# Altium footprint library footprints.PcbLib: 32 footprints (part 1 of 2)
Each footprint in its own frame and in the unit in brackets; x right, y up, seen from the top. Pads: shape width x height; smd on the part's side, far side on the other; paste and mask are expansions set on the pad; w line width, h text height; cw(c..) or ccw(c..) is an arc to the next point about the centre after c.
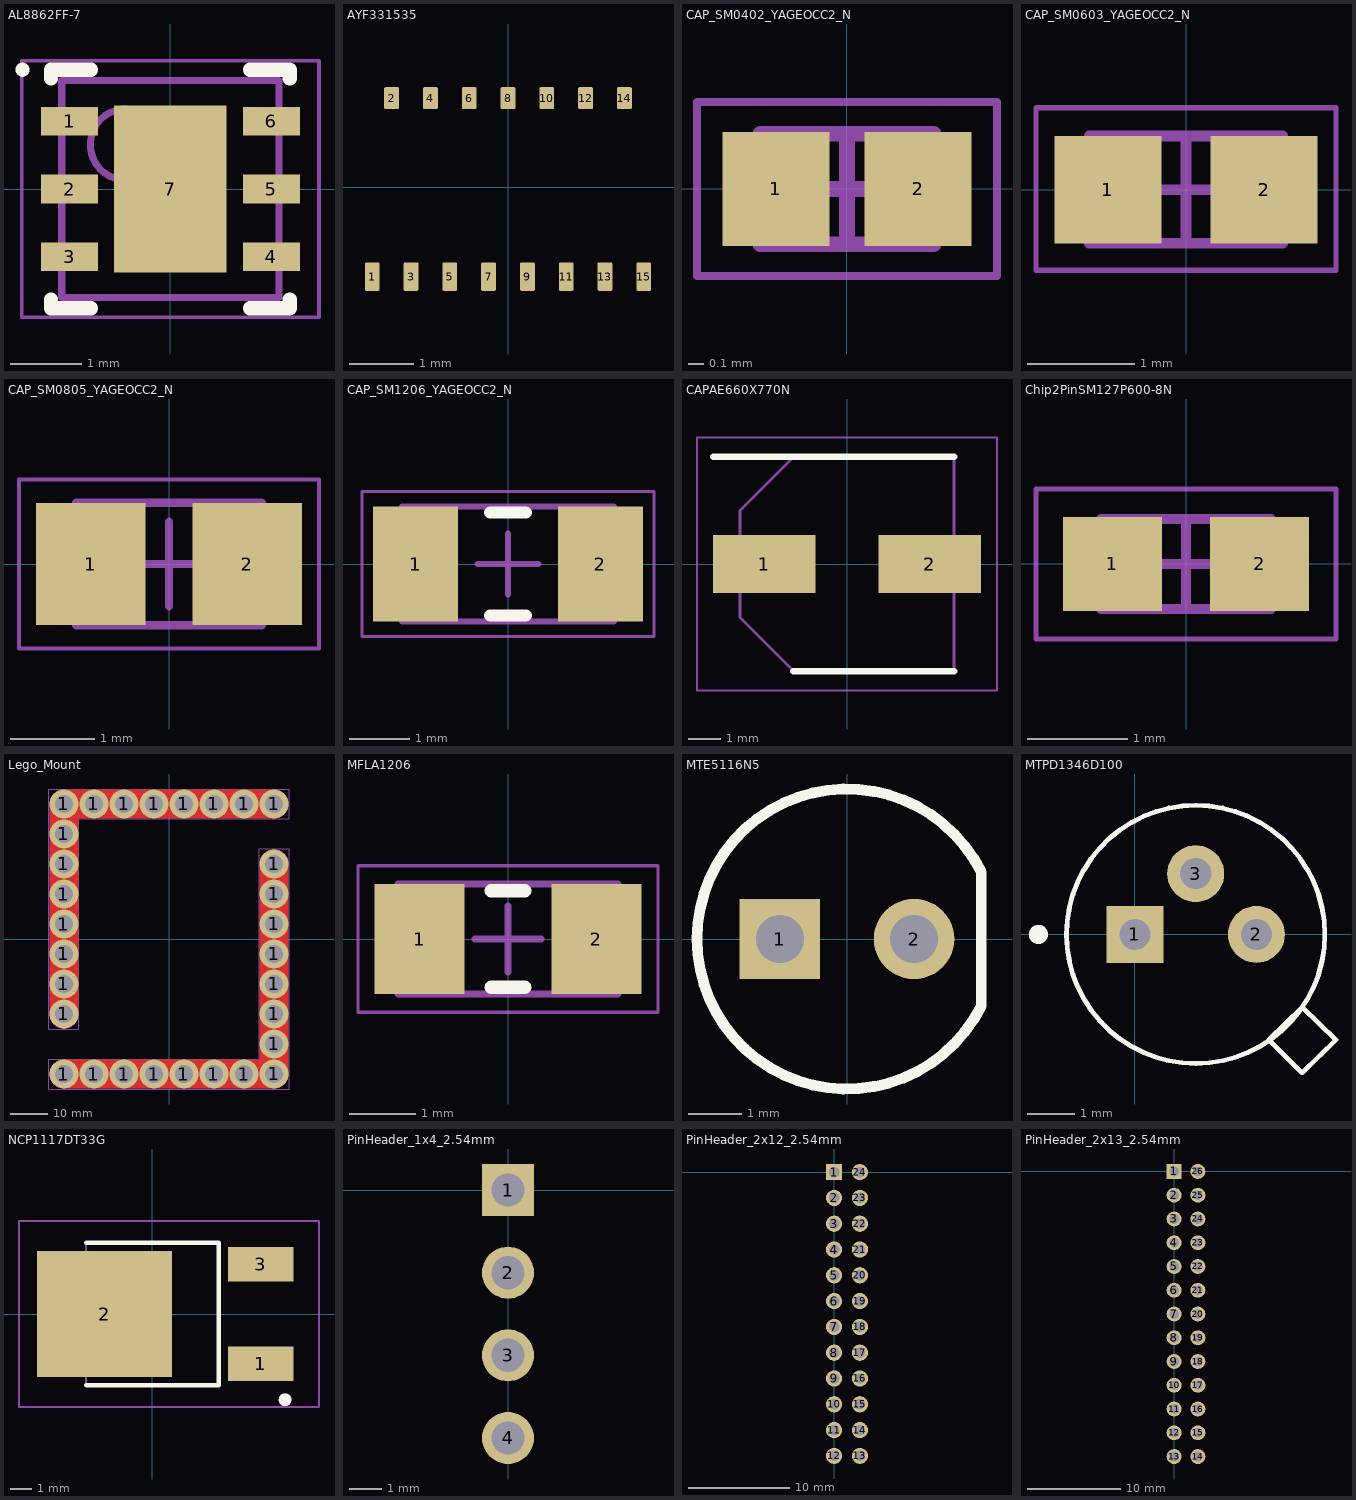
[diagram p0: the footprints below, top view; thin cyan lines are the x and y axes]

## AL8862FF-7 [mm] "AL8862FF-7 60V 1A STEP-DOWN LED DRIVER"
height 0.63
pads (7):
  rect 0.8x0.4 smd: 1(-1.415,0.95) 2(-1.415,0) 3(-1.415,-0.95) 4(1.415,-0.95) 5(1.415,0) 6(1.415,0.95)
  rect 1.58x2.35 smd: 7(0,0)
Top Overlay:
  circle w0.1: c-2.075,1.675 r0.05
  lines w0.2: -1.675,-1.55 -1.675,-1.675 -1.115,-1.675 ; -1.675,1.55 -1.675,1.675 -1.115,1.675 ; 1.115,-1.675 1.675,-1.675 1.675,-1.55 ; 1.115,1.675 1.675,1.675 1.675,1.55
Top Courtyard:
  lines w0.05: -2.085,-1.8 2.085,-1.8 2.085,1.8 -2.085,1.8 -2.085,-1.8
  lines w0.1: -0.5,0 0.5,0 ; 0,-0.5 0,0.5
Mechanical 13:
  circle w0.1: c-0.625,0.625 r0.5
  lines w0.1: -1.525,-1.525 1.525,-1.525 1.525,1.525 -1.525,1.525 -1.525,-1.525
3D body: height 0.63, standoff 0.05, extent -1.525,-1.525 1.525,1.525

## AYF331535 [mm] "AYF331535 FFC & FPC-Steckverbinder CONNECTOR SURFACE MOUNT"
pads (15):
  rrect20% 0.23x0.44 smd: 1(-2.1,-1.38) 3(-1.5,-1.38) 5(-0.9,-1.38) 7(-0.3,-1.38) 9(0.3,-1.38) 11(0.9,-1.38) 13(1.5,-1.38) 15(2.1,-1.38)
  rrect20% 0.23x0.34 smd: 2(-1.8,1.38) 4(-1.2,1.38) 6(-0.6,1.38) 8(0,1.38) 10(0.6,1.38) 12(1.2,1.38) 14(1.8,1.38)
3D body: height 1.84, standoff 0.01, extent -2.975,0.475 2.975,0.825
3D body: height 0.9, standoff 0, extent -3,-1.475 3,1.475

## CAP_SM0402_YAGEOCC2_N [mm] "Capacitor, Yageo CC Class2, SM0402, IPC Medium Density"
height 0.9
pads (2):
  rect 0.68x0.72 smd: 1(-0.45,0) 2(0.45,0)
Mechanical 13:
  lines w0.1: -0.55,-0.35 -0.55,0.35 0.55,0.35 0.55,-0.35 -0.55,-0.35
Mechanical 15:
  lines w0.05: -0.95,-0.55 -0.95,0.55 0.95,0.55 0.95,-0.55 -0.95,-0.55
  lines w0.1: -0.35,0 0.35,0 ; 0,-0.35 0,0.35
3D body: height 0.6, standoff 0, extent -0.3,-0.35 0.3,0.35
3D body: height 0.6, standoff 0, extent -0.55,-0.35 -0.3,0.35
3D body: height 0.6, standoff 0, extent 0.3,-0.35 0.55,0.35

## CAP_SM0603_YAGEOCC2_N [mm] "Capacitor, Yageo CC Class2, SM0603, IPC Medium Density"
height 0.9
pads (2):
  rect 1x1 smd: 1(-0.727,0) 2(0.727,0)
Mechanical 13:
  lines w0.1: -0.9,-0.5 0.9,-0.5 0.9,0.5 -0.9,0.5 -0.9,-0.5
Mechanical 15:
  lines w0.05: -1.397,-0.75 1.397,-0.75 1.397,0.762 -1.397,0.762 -1.397,-0.75
  lines w0.1: -0.5,0 0.5,0 ; 0,-0.5 0,0.5
3D body: height 0.9, standoff 0, extent 0.5,-0.5 0.9,0.5
3D body: height 0.9, standoff 0, extent -0.9,-0.5 -0.5,0.5
3D body: height 0.9, standoff 0, extent -0.5,-0.5 0.5,0.5

## CAP_SM0805_YAGEOCC2_N [mm] "Capacitor, Yageo CC Class2, SM0805, IPC Medium Density"
height 1.45
pads (2):
  rect 1.3x1.45 smd: 1(-0.927,0) 2(0.927,0)
Mechanical 13:
  lines w0.1: -1.1,-0.725 -1.1,0.725 1.1,0.725 1.1,-0.725 -1.1,-0.725
Mechanical 15:
  lines w0.05: -1.778,-1 -1.778,1 1.778,1 1.778,-1 -1.778,-1
  lines w0.1: -0.5,0 0.5,0 ; 0,-0.5 0,0.5
3D body: height 1.45, standoff 0, extent -0.6,-0.725 0.6,0.725
3D body: height 1.45, standoff 0, extent -1.1,-0.725 -0.6,0.725
3D body: height 1.45, standoff 0, extent 0.6,-0.725 1.1,0.725

## CAP_SM1206_YAGEOCC2_N [mm] "Capacitor, Yageo CC Class2, SM1206, IPC Medium Density"
height 1.8
pads (2):
  rect 1.4x1.9 smd: 1(-1.527,0) 2(1.527,0)
Top Overlay:
  lines w0.2: -0.3,-0.85 0.3,-0.85 ; -0.3,0.85 0.3,0.85
Mechanical 13:
  lines w0.1: -1.75,-0.95 -1.75,0.95 1.75,0.95 1.75,-0.95 -1.75,-0.95
Mechanical 15:
  lines w0.05: -2.413,-1.2 -2.413,1.2 2.413,1.2 2.413,-1.2 -2.413,-1.2
  lines w0.1: -0.5,0 0.5,0 ; 0,-0.5 0,0.5
3D body: height 1.8, standoff 0, extent -1.25,-0.95 1.25,0.95
3D body: height 1.8, standoff 0, extent -1.75,-0.95 -1.25,0.95
3D body: height 1.8, standoff 0, extent 1.25,-0.95 1.75,0.95

## CAPAE660X770N [mm]
pads (2):
  rect 3.15x1.8 smd: 1(-2.55,0) 2(2.55,0)
Top Overlay:
  lines w0.2: -4.125,3.3 3.3,3.3 ; -1.65,-3.3 3.3,-3.3
Mechanical 15:
  lines w0.1: -3.3,-1.65 -1.65,-3.3 3.3,-3.3 3.3,3.3 -1.65,3.3 -3.3,1.65 -3.3,-1.65
Mechanical 20:
  lines w0.05: -4.625,-3.9 -4.625,3.9 4.625,3.9 4.625,-3.9 -4.625,-3.9
3D body "865080545012.stp": height 7.7, standoff 0, extent -3.4,-3.4 3.4,3.4

## Chip2PinSM127P600-8N [mm]
height 0.7
pads (2):
  rect 0.99x0.94 smd: 1(-0.735,0) 2(0.735,0)
Top Assembly:
  lines w0.1: -0.85,-0.45 0.85,-0.45 0.85,0.45 -0.85,0.45 -0.85,-0.45
Mechanical 15:
  lines w0.05: -1.5,-0.75 1.5,-0.75 1.5,0.75 -1.5,0.75 -1.5,-0.75
  lines w0.1: -0.45,0 0.45,0 ; 0,-0.45 0,0.45
3D body: height 0.7, standoff 0, extent 0.45,-0.45 0.85,0.45
3D body: height 0.7, standoff 0, extent -0.85,-0.45 -0.45,0.45
3D body: height 0.7, standoff 0, extent -0.45,-0.45 0.45,0.45

## Lego_Mount [mm]
pads (30):
  round 7.8 hole 4.85: 1(-28,-36) 1(-28,-20) 1(-28,-12) 1(-28,-4) 1(-28,4) 1(-28,12) 1(-28,20) 1(-28,28) 1(-28,36) 1(-20,-36) 1(-20,36) 1(-12,-36) 1(-12,36) 1(-4,-36) 1(-4,36) 1(4,-36) 1(4,36) 1(12,-36) 1(12,36) 1(20,-36) 1(20,36) 1(28,-36) 1(28,-28) 1(28,-20) 1(28,-12) 1(28,-4) 1(28,4) 1(28,12) 1(28,20) 1(28,36)
Top Layer:
  lines w7.8: -28,-36 28,-36 28,20 ; -28,-20 -28,36 28,36
Bottom Layer:
  lines w7.8: -28,-36 28,-36 28,20 ; -28,-20 -28,36 28,36
Top Courtyard:
  lines w0.01: -32,-40 -32,-32 24,-32 24,24 32,24 32,-40 -32,-40 ; -32,-24 -32,40 32,40 32,32 -24,32 -24,-24 -32,-24
Bottom Courtyard:
  lines w0.01: -32,-40 -32,-32 24,-32 24,24 32,24 32,-40 -32,-40 ; -32,-24 -32,40 32,40 32,32 -24,32 -24,-24 -32,-24

## MFLA1206 [mm]
height 0.65
pads (2):
  rect 1.35x1.65 smd: 1(-1.325,0) 2(1.325,0)
Top Overlay:
  lines w0.2: -0.25,-0.725 0.25,-0.725 ; -0.25,0.725 0.25,0.725
Top Courtyard:
  lines w0.05: -2.25,-1.1 -2.25,1.1 2.25,1.1 2.25,-1.1 -2.25,-1.1
  lines w0.1: -0.5,0 0.5,0 ; 0,-0.5 0,0.5
Top Assembly:
  lines w0.1: -1.65,-0.825 -1.65,0.825 1.65,0.825 1.65,-0.825 -1.65,-0.825
3D body: height 0.65, standoff 0, extent -1.15,-0.825 1.15,0.825
3D body: height 0.65, standoff 0, extent -1.65,-0.825 -1.15,0.825
3D body: height 0.65, standoff 0, extent 1.15,-0.825 1.65,0.825

## MTE5116N5 [mm]
pads (2):
  rect 1.5x1.5 hole 0.9: 1(-1.25,0)
  round 1.5 hole 0.9: 2(1.25,0)
Top Overlay:
  lines w0.2: 2.5,-1.25 cw(c0,0) 2.5,1.25 2.5,-1.25
3D body "LED D5 - White_cutted.step": height 8.6, standoff -5.1, extent -2.938,-2.945 2.5,2.945

## MTPD1346D100 [mm]
pads (3):
  rect 1.192x1.192 hole 0.65: 1(0,0)
  round 1.192 hole 0.65: 2(2.54,0) 3(1.27,1.27)
Top Overlay:
  circle w0.3: c-2.02,0 r0.05
  lines w0.1: 3.491,-2.891 2.8,-2.2 3.497,-1.526 4.203,-2.202 ; 3.493,-2.889 4.203,-2.203 ; 1.27,-2.7 ccw(c1.27,0) 1.27,2.7 ccw(c1.27,0) 1.27,-2.7
Mechanical 15:
  lines w0.1: 3.491,-2.891 2.8,-2.2 3.497,-1.526 4.203,-2.202 ; 3.493,-2.889 4.203,-2.203 ; 1.27,-2.7 cw(c1.27,0) 1.27,2.7 cw(c1.27,0) 1.27,-2.7
3D body "MTPD1346D-100.stp": height 2.8, standoff -14, extent -1.463,-2.886 4.116,2.697

## NCP1117DT33G [mm]
pads (3):
  rect 3x1.6 smd: 1(4.982,-2.285) 3(4.982,2.285)
  rect 6.2x5.8 smd: 2(-2.198,0)
Top Overlay:
  lines w0.2: -3.047,-3.27 3.048,-3.27 3.048,3.27 -3.047,3.27 ; 6.096,-3.741 ccw(c6.096,-3.937) 6.146,-3.747 ; 6.084,-3.936 ccw(c6.134,-3.936) 6.184,-3.936 ccw(c6.134,-3.936) 6.084,-3.936
Mechanical 15:
  lines w0.1: -3.047,-3.27 3.048,-3.27 3.048,3.27 -3.047,3.27 -3.047,-3.27
Mechanical 20:
  lines w0.1: -6.128,-4.27 7.652,-4.27 7.652,4.27 -6.128,4.27 -6.128,-4.27
3D body "NCP1117DT33G.stp": height 2.69, standoff -0.02, extent -4.678,-3.335 5.74,3.395

## PinHeader_1x4_2.54mm [mm]
pads (4):
  rect 1.6x1.6 hole 1.02: 1(0,0)
  round 1.6 hole 1.02: 2(0,-2.54) 3(0,-5.08) 4(0,-7.62)

## PinHeader_2x12_2.54mm [mm]
pads (24):
  rect 1.6x1.6 hole 1.02: 1(0,0)
  round 1.6 hole 1.02: 2(0,-2.54) 3(0,-5.08) 4(0,-7.62) 5(0,-10.16) 6(0,-12.7) 7(0,-15.24) 8(0,-17.78) 9(0,-20.32) 10(0,-22.86) 11(0,-25.4) 12(0,-27.94) 13(2.54,-27.94) 14(2.54,-25.4) 15(2.54,-22.86) 16(2.54,-20.32) 17(2.54,-17.78) 18(2.54,-15.24) 19(2.54,-12.7) 20(2.54,-10.16) 21(2.54,-7.62) 22(2.54,-5.08) 23(2.54,-2.54) 24(2.54,0)

## PinHeader_2x13_2.54mm [mm]
pads (26):
  rect 1.6x1.6 hole 1.02: 1(0,0)
  round 1.6 hole 1.02: 2(0,-2.54) 3(0,-5.08) 4(0,-7.62) 5(0,-10.16) 6(0,-12.7) 7(0,-15.24) 8(0,-17.78) 9(0,-20.32) 10(0,-22.86) 11(0,-25.4) 12(0,-27.94) 13(0,-30.48) 14(2.54,-30.48) 15(2.54,-27.94) 16(2.54,-25.4) 17(2.54,-22.86) 18(2.54,-20.32) 19(2.54,-17.78) 20(2.54,-15.24) 21(2.54,-12.7) 22(2.54,-10.16) 23(2.54,-7.62) 24(2.54,-5.08) 25(2.54,-2.54) 26(2.54,0)